# Altium schematic symbol library Schematics.SchLib: 6 symbols
Pins are listed as number, name and electrical type; pins without a type are passive.

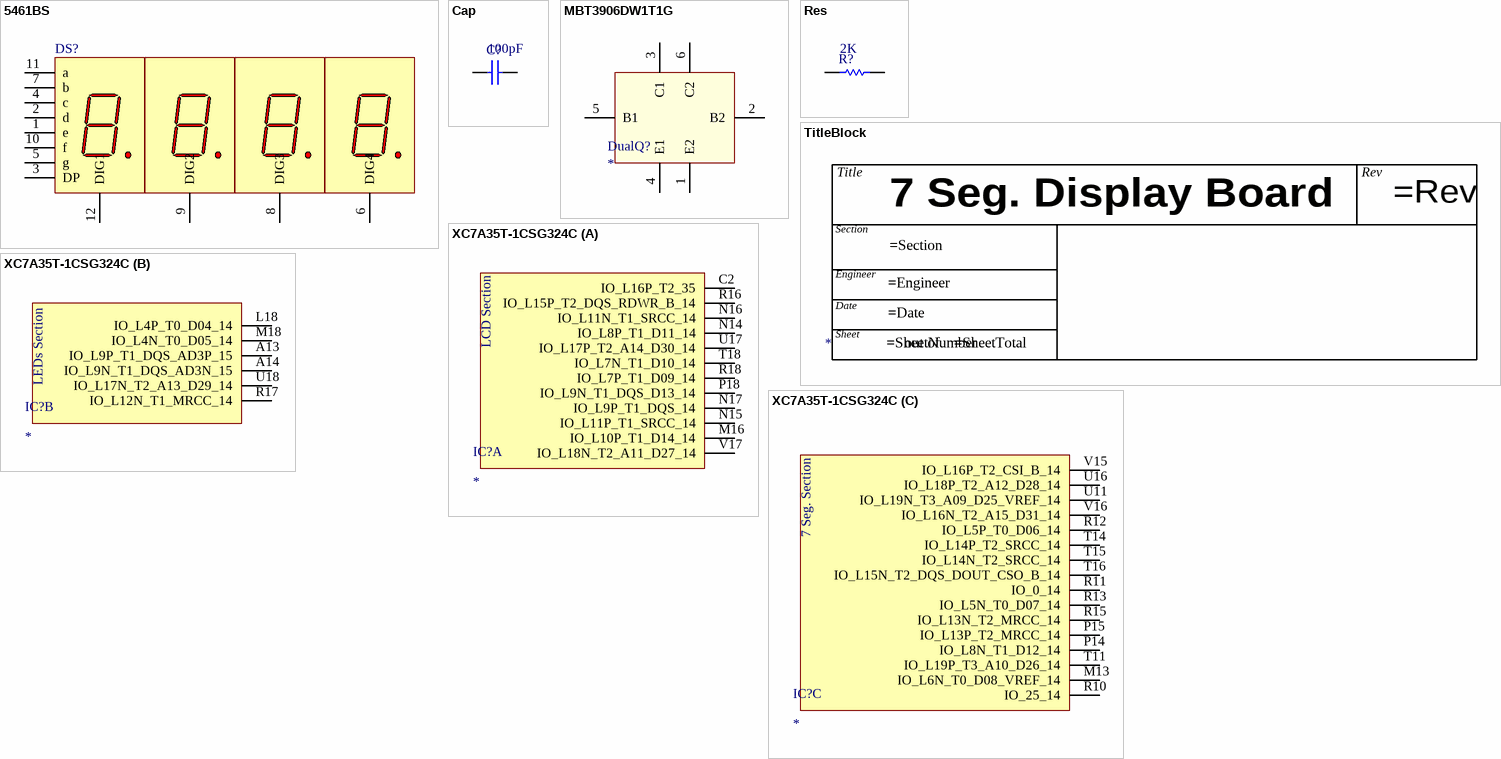
[diagram p0: symbols 5461BS to XC7A35T-1CSG324C]

## 5461BS
designator DS?
4 Digit Display (Red); MinimumIntensity: 360 ucd; Note: IF = 5 mA; Colour: High Efficiency Red (HER); Note: Pins 1 and 6 are redundant Anodes.; Published: 8-Jun-2000; LatestRevisionDate: 17-Dec-2003; LatestRevisionNote: Schematic revised, PCB Footprint replaced.; DatasheetVersion: 19-Feb-2002; PackageVersion: 11-Feb-2002; PackageReference: A; Publisher: Altium Limited; PackageDescription: LED, 7-Segment Display, 7.62 mm, RHD; 10 Leads; Row Space 5.08 mm; Pitch 2.54 mm; ComponentLink1Description: Manufacturer Link; ComponentLink1URL: http://www.agilent.com/
footprint 5461BS (7 Segments Display)
pins: 1 e "Cathode", 2 d "Cathode", 3 DP "Cathode", 4 c "Cathode", 5 g "Cathode", 6 DIG4 "Anode", 7 b "Cathode", 8 DIG3 "Anode", 9 DIG2 "Anode", 10 f "Cathode", 11 a "Cathode", 12 DIG1 "Anode"

## Cap
designator C?  value 100pF
Capacitor; Published: 8-Jun-2000; LatestRevisionDate: 17-Jul-2002; LatestRevisionNote: Re-released for DXP Platform.; PackageReference: RAD-0.3; Publisher: Altium Limited; PackageDescription: Radial Cap, Thru-Hole; 2 Leads; 0.3 in Pin Spacing
simulation model CAP (Capacitor)
signal-integrity model Cap
footprint CAP 0805
pins: 1, 2

## MBT3906DW1T1G
designator DualQ?
Dual Transistors; Manufacturer_Name: ON Semiconductor; Manufacturer_Part_Number: MBT3906DW1T1G; Datasheet Link: http://www.onsemi.com/pub/Collateral/MBT3906DW1T1-D.PDF; Height: 1.1mm; Mouser Part Number: 863-MBT3906DW1T1G; Mouser Price/Stock: https://www.mouser.com/Search/Refine.aspx?Keyword=863-MBT3906DW1T1G; RS Part Number: 7916075P; RS Price/Stock: http://uk.rs-online.com/web/p/products/7916075P; Name: MBT3906DW1T1G
footprint MBT3906DW1T1G (SOT65P210X110-6N)
pins: 1 E2, 2 B2, 3 C1, 4 E1, 5 B1, 6 C2

## Res
designator R?  value 2K
Resistor; Published: 8-Jun-2000; LatestRevisionDate: 17-Jul-2002; LatestRevisionNote: Re-released for DXP Platform.; PackageReference: AXIAL-0.3; Publisher: Altium Limited; PackageDescription: Axial Device, Thru-Hole; 2 Leads; 0.3 in Pin Spacing
simulation model RESISTOR (Resistor)
signal-integrity model Res
footprint RES 0805
pins: 1, 2

## TitleBlock
designator *, comment Title Block  (value not drawn)  (graphical)
text: Title; Rev; 7 Seg. Display Board; Section; Engineer; Date; Sheet; out of

## XC7A35T-1CSG324C
designator IC?
Integrated Circuit; Manufacturer_Name: XILINX; Manufacturer_Part_Number: XC7A35T-1CSG324C; Datasheet Link: http://www.xilinx.com/support/documentation/data_sheets/ds180_7Series_Overview.pdf; Height: 1.5mm; Mouser Part Number: 217-XC7A35T-1CSG324C; Mouser Price/Stock: https://www.mouser.co.uk/ProductDetail/Xilinx/XC7A35T-1CSG324C?qs=rrS6PyfT74cxvR58nHYPWA%3D%3D
part A pins: C2 IO_L16P_T2_35, M16 IO_L10P_T1_D14_14, N14 IO_L8P_T1_D11_14, N15 IO_L11P_T1_SRCC_14, N16 IO_L11N_T1_SRCC_14, N17 IO_L9P_T1_DQS_14, P18 IO_L9N_T1_DQS_D13_14, R16 IO_L15P_T2_DQS_RDWR_B_14, R18 IO_L7P_T1_D09_14, T18 IO_L7N_T1_D10_14, U17 IO_L17P_T2_A14_D30_14, V17 IO_L18N_T2_A11_D27_14
part B pins: A13 IO_L9P_T1_DQS_AD3P_15, A14 IO_L9N_T1_DQS_AD3N_15, L18 IO_L4P_T0_D04_14, M18 IO_L4N_T0_D05_14, R17 IO_L12N_T1_MRCC_14, U18 IO_L17N_T2_A13_D29_14
part C pins: M13 IO_L6N_T0_D08_VREF_14, P14 IO_L8N_T1_D12_14, P15 IO_L13P_T2_MRCC_14, R10 IO_25_14, R11 IO_0_14, R12 IO_L5P_T0_D06_14, R13 IO_L5N_T0_D07_14, R15 IO_L13N_T2_MRCC_14, T11 IO_L19P_T3_A10_D26_14, T14 IO_L14P_T2_SRCC_14, T15 IO_L14N_T2_SRCC_14, T16 IO_L15N_T2_DQS_DOUT_CSO_B_14, U11 IO_L19N_T3_A09_D25_VREF_14, U16 IO_L18P_T2_A12_D28_14, V15 IO_L16P_T2_CSI_B_14, V16 IO_L16N_T2_A15_D31_14
part A text: LCD Section
part B text: LEDs Section
part C text: 7 Seg. Section